# EAGLE library part 3-RCA-JACK (library 3-rca-jack)
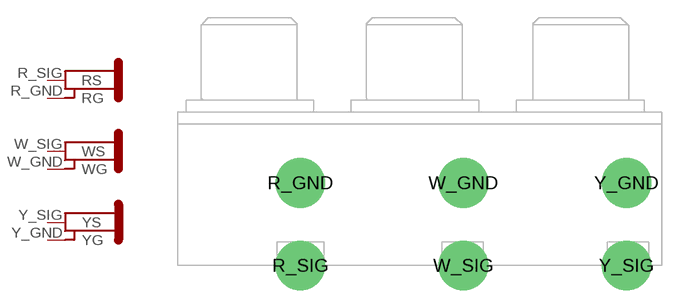
[diagram p0: symbol with the pads of 3-RCA-JACK; footprint 3-RCA-JACK]

Designator prefix -

## 3-RCA-JACK  [3-RCA-JACK]
R_GND  RG
R_SIG  RS
W_GND  WG
W_SIG  WS
Y_GND  YG
Y_SIG  YS

## Footprint 3-RCA-JACK (pad centres in mm)
drill 2.5 pad 4.2: R_GND 0,7; R_SIG 0,0; W_GND 13.8,7; W_SIG 13.8,0; Y_GND 27.6,7; Y_SIG 27.6,0